# Altium footprint library Omega.PcbLib: 1 footprints
Each footprint in its own frame and in the unit in brackets; x right, y up, seen from the top. Pads: shape width x height; smd on the part's side, far side on the other; paste and mask are expansions set on the pad; w line width, h text height; cw(c..) or ccw(c..) is an arc to the next point about the centre after c.
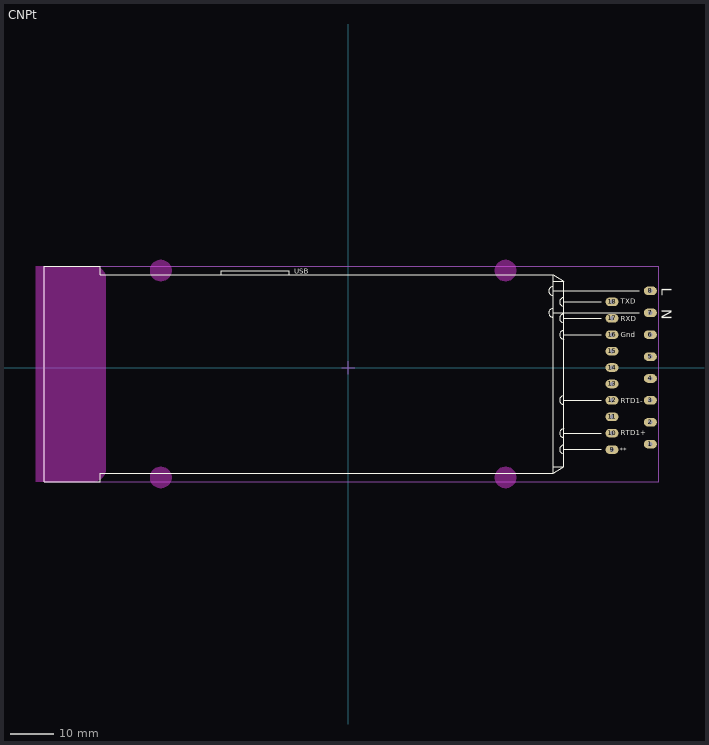
[diagram p0: the footprint, top view; thin cyan lines are the x and y axes]

## CNPt [mm] "Thermal Regulator, 25.4x48x127mm"
height 25
pads (18):
  oval 3x2 hole 1: 1(70.08,-17.78) 2(70.08,-12.7) 3(70.08,-7.62) 4(70.08,-2.54) 5(70.08,2.54) 6(70.08,7.62) 7(70.08,12.7) 8(70.08,17.78) 9(61.19,-19.05) 10(61.19,-15.24) 11(61.19,-11.43) 12(61.19,-7.62) 13(61.19,-3.81) 14(61.19,0) 15(61.19,3.81) 16(61.19,7.62) 17(61.19,11.43) 18(61.19,15.24)
Top Overlay:
  lines w0.2: -29.5,21.543 -29.5,22.5 -13.75,22.5 -13.75,21.5 ; 47.5,-23 50,-23 ; 47.5,11.69 cw(c47.5,12.68) 47.5,13.67 ; 47.5,12.7 67.5,12.7 ; 47.5,16.77 cw(c47.5,17.76) 47.5,18.75 ; 47.5,17.78 67.5,17.78 ; 47.5,20 50,20 ; 50,-19.99 cw(c50,-19) 50,-18.01 ; 50,-19 58.65,-19 ; 50,-16.23 cw(c50,-15.24) 50,-14.25 ; 50,-15.24 58.65,-15.24 ; 50,-8.56 cw(c50,-7.57) 50,-6.58 ; 50,-7.55 58.65,-7.55 ; 50,6.61 cw(c50,7.6) 50,8.59 ; 50,7.62 58.65,7.62 ; 50,10.42 cw(c50,11.41) 50,12.4 ; 50,11.43 58.65,11.43 ; 50,14.24 cw(c50,15.23) 50,16.22 ; 50,15.24 58.65,15.24 ; 47.5,-24.5 -27.5,-24.5 -57.5,-24.5 -57.5,-26.5 -70.5,-26.5 -70.5,23.5 -57.5,23.5 -57.5,21.5 47.5,21.5 ; 47.5,-24.5 47.5,21.5 ; 47.5,-24.5 50,-23 ; 47.5,21.5 50,20 ; 50,-23 50,20
  text "USB" at -12.5,21.75 h1.2
  text "RTD1-" at 63.25,-8.25 h1.2
  text "RTD1+" at 63.25,-15.75 h1.2
  text "Gnd" at 63.25,7 h1.2
  text "RXD" at 63.25,10.75 h1.2
  text "TXD" at 63.25,14.75 h1.2
  text "N" at 72.75,13.5 h2.4
  text "L" at 72.75,18.5 h2.4
  text "**" at 63,-19.75 h1.2
Keep-Out Layer:
  drawing of 5 lines, arcs and shapes, not listed
Mechanical 15:
  lines w0.05: -70.5,-26.5 72,-26.5 72,23.5 -70.5,23.5 -70.5,-26.5
  lines w0.1: -1.5,0 1.5,0 ; 0,-1.5 0,1.5
3D body: height 19, standoff 0, extent 41.5,-24 47,21
3D body: height 26, standoff -3, extent -69.5,-25.5 -58.5,22.5
3D body: height 22, standoff 0, extent -58.5,-24 41.5,21